# EAGLE library part USB-C-6PIN (library ESPkachu)
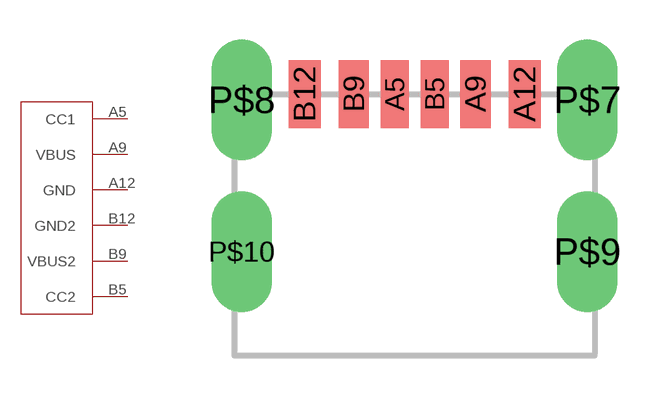
[diagram p4: symbol with the pads of USB-C-6PIN; footprint USB-C-6PIN]

Designator prefix -

## USB-C-6PIN  [USB-C-6PIN]
A5  CC1
A9  VBUS
A12  GND
B5  CC2
B9  VBUS2
B12  GND2

## Footprint USB-C-6PIN (pad centres in mm)
smd 0.7 x 1.7: A5 -0.5,0; B5 0.5,0
smd 0.76 x 1.7: A9 1.52,0; B9 -1.52,0
smd 0.8 x 1.7: A12 2.75,0; B12 -2.75,0
drill 1 pad 1.016 long: P$7 4.32,-0.15; P$8 -4.32,-0.15; P$9 4.32,-3.95; P$10 -4.32,-3.95